# Altium schematic symbol library ERJ-HP6D1372V.SchLib: 1 symbol
Pins are listed as number, name and electrical type; pins without a type are passive.

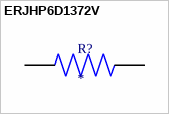
[diagram p0: symbol ERJHP6D1372V]

## ERJHP6D1372V
designator R?
MP: ERJHP6D1372V; MF: {'manufacturer': u'Panasonic'}; Package: None; Availability: Unavailable; Price: None; Value: *
footprint RES_ERJHP6D1372V
pins: 1, 2